# Altium footprint library Seeed-OPL-Connector.PCBLIB: 183 footprints (part 1 of 12)
Each footprint in its own frame and in the unit in brackets; x right, y up, seen from the top. Pads: shape width x height; smd on the part's side, far side on the other; paste and mask are expansions set on the pad; w line width, h text height; cw(c..) or ccw(c..) is an arc to the next point about the centre after c.
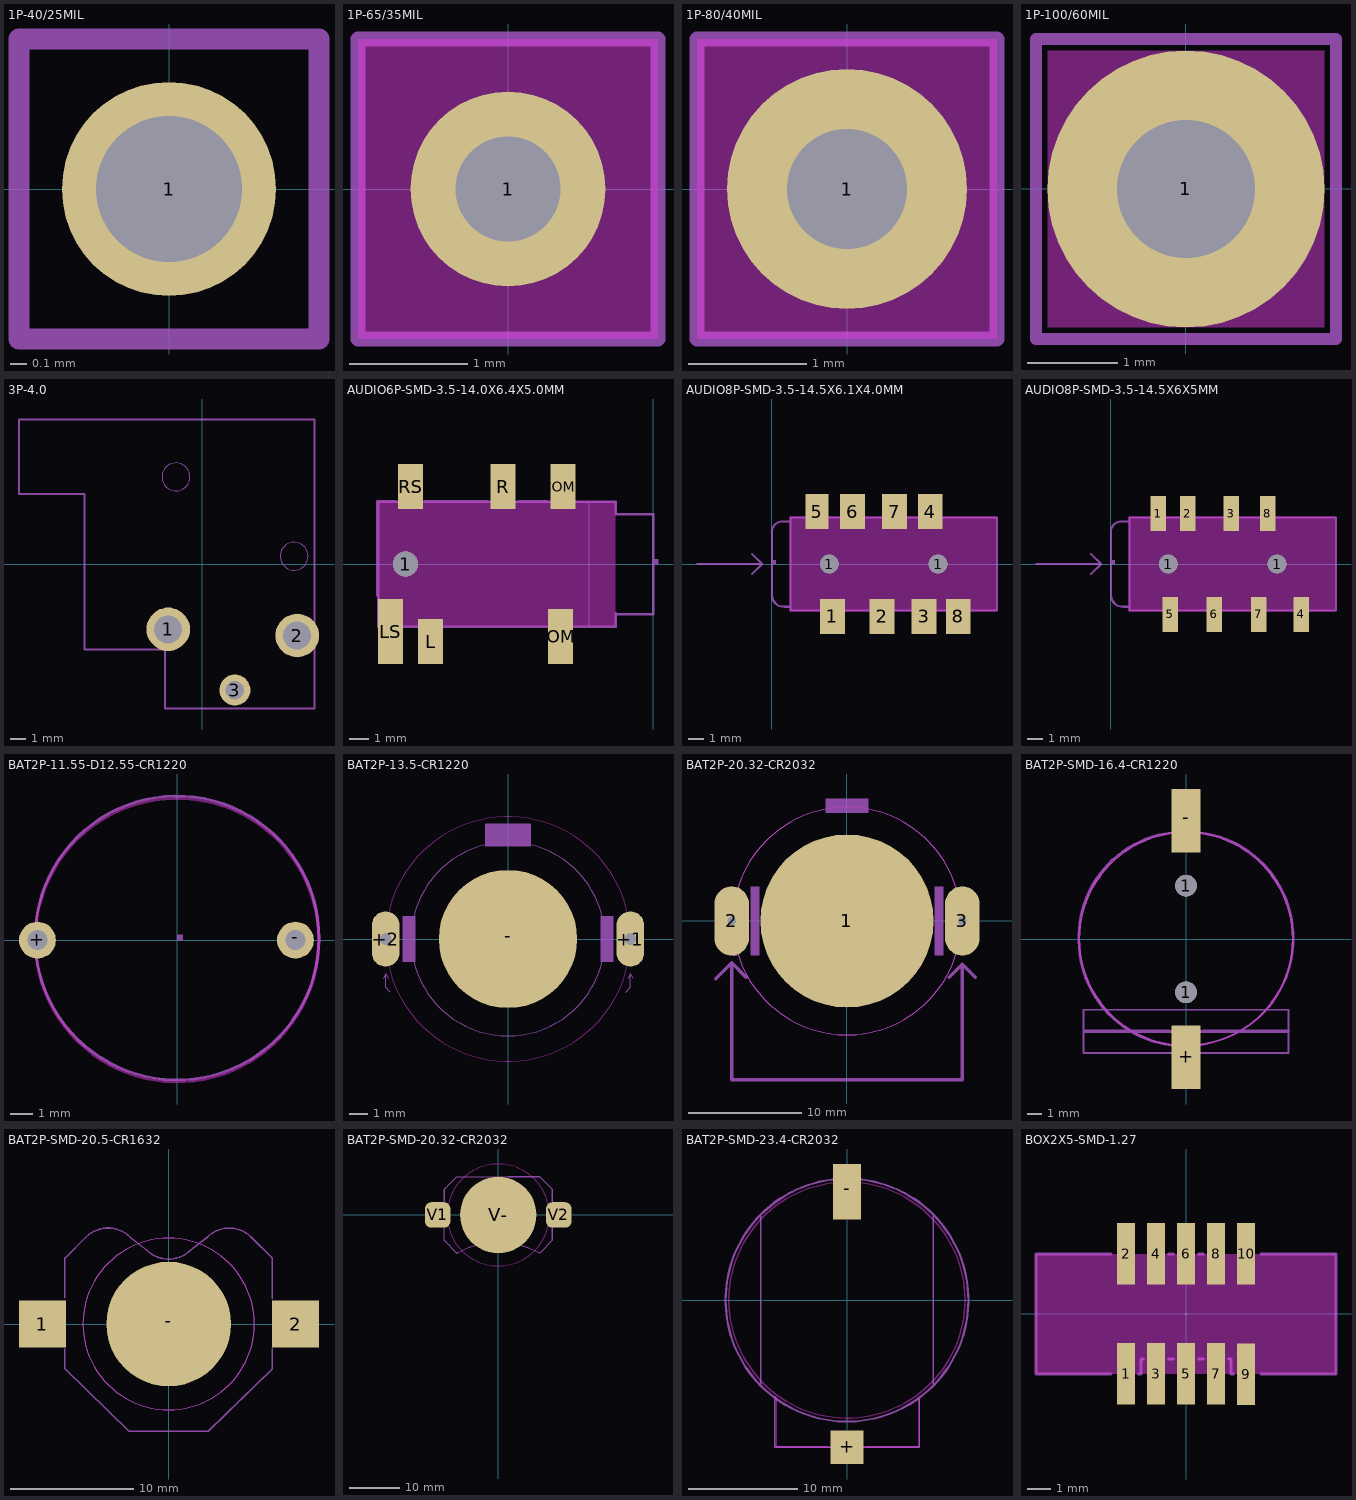
[diagram p0: the footprints below, top view; thin cyan lines are the x and y axes]

## 1P-40/25MIL [mil]
pads (1):
  round 50 hole 34: 1(0,0)
Mechanical 2:
  lines w5: -35,-35 35,-35 35,35 -35,35 -35,-35

## 1P-65/35MIL [mil]
pads (1):
  round 65 hole 35: 1(0,0)
Keep-Out Layer:
  rectangle: -50,-50 50,50
Mechanical 2:
  lines w5: -50,-50 50,-50 50,50 -50,50 -50,-50

## 1P-80/40MIL [mil]
pads (1):
  round 80 hole 40: 1(0,0)
Keep-Out Layer:
  rectangle: -50,-50 50,50
Mechanical 2:
  lines w5: -50,-50 50,-50 50,50 -50,50 -50,-50

## 1P-100/60MIL [mil]
pads (1):
  round 120 hole 60: 1(0,0)
Keep-Out Layer:
  rectangle: -60,-60 60,60
Mechanical 2:
  lines w5: -65,-65 65,-65 65,65 -65,65 -65,-65

## 3P-4.0 [mm]
pads (3):
  round 2.8 hole 1.8: 1(-2.2,-4.2) 2(6.1,-4.6)
  round 2 hole 1.2: 3(2.086,-8.112)
Mechanical 1:
  circle w0.025: c5.9,0.5 r0.9
  circle w0.025: c-1.7,5.6 r0.9
Mechanical 2:
  lines w0.127: -11.8,4.5 -7.6,4.5 -7.6,-5.5 -2.4,-5.5 -2.4,-9.3 7.208,-9.3 7.208,9.3 -11.8,9.3 -11.8,4.5

## AUDIO6P-SMD-3.5-14.0X6.4X5.0MM [mil]
pads (7):
  round 50 hole 50: 1(-495,0)
  rect 50x90 smd: COM1(-180,155) L(-445,-155) R(-300,155) RS(-485,155)
  rect 50x110 smd: COM2(-185,-145)
  rect 50x130 smd: LS(-525,-135)
Keep-Out Layer:
  rectangle: -550,-125 -75,125
Mechanical 1:
  lines w1: -127.56,-125 -127.56,125
Mechanical 2:
  lines w5: -551.18,-62.99 -551.18,125.98 -515.75,125.98 ; -496.06,-125.98 -476.38,-125.98 ; -456.69,125.98 -330.71,125.98 ; -413.39,-125.98 -216.54,-125.98 ; -267.72,125.98 -212.6,125.98 ; -153.54,-125.98 -74.8,-125.98 -74.8,-98.43 ; -149.61,125 -74.8,125 -74.8,102.36 ; -75,-100 0,-100 0,100 -75,100
Mechanical 13:
  region: 0,0 10,0 10,10 0,10
Mechanical 18:
  lines w5: -75,-100 -75,-125 -550,-125 -550,125 -75,125 -75,100

## AUDIO8P-SMD-3.5-14.5X6.1X4.0MM [mm]
pads (10):
  round 1.2 hole 1.2: 1(3.7,0) 1(10.7,0)
  rect 1.6x2.25 smd: 1(3.9,-3.375) 2(7.1,-3.375) 3(9.8,-3.375) 4(10.2,3.375) 6(5.2,3.375) 7(7.9,3.375) 8(12,-3.375)
  rect 1.5x2.25 smd: 5(2.9,3.375)
Keep-Out Layer:
  rectangle: 1.143,-3.048 14.478,3.048
Mechanical 2:
  lines w0.127: 1.2,-2.75 0.719,-2.75 cw(c0.719,-2.031) 0,-2.031 0,2.062 cw(c0.688,2.062) 0.688,2.75 1.2,2.75 ; 1.2,-2.75 1.2,-3 14.5,-3 14.5,3 1.2,3 1.2,2.75 ; 1.2,-2.75 1.2,2.75
Mechanical 13:
  region: 0,0 0.254,0 0.254,0.254 0,0.254
  lines w0.025: 0,-1.869 0,2.021 cw(c0.71,2.021) 0.71,2.73 1.206,2.73 1.206,-2.794 0.925,-2.794 cw(c0.925,-1.869) 0,-1.869
  lines w0.127: -4.826,0 -0.635,0 ; -1.27,-0.635 -0.635,0 ; -1.27,0.635 -0.635,0

## AUDIO8P-SMD-3.5-14.5X6X5MM [mm]
pads (10):
  rect 1x2.25 smd: 1(3.05,3.24) 2(4.95,3.24) 3(7.75,3.24) 4(12.26,-3.24) 5(3.81,-3.24) 6(6.66,-3.24) 7(9.51,-3.24) 8(10.1,3.24)
  round 1.2 hole 1.2: 1(3.7,0) 1(10.7,0)
Keep-Out Layer:
  rectangle: 1.143,-3.048 14.478,3.048
Mechanical 2:
  lines w0.127: 2.4,3 1.2,3 1.2,2.75 ; 3.2,-3 1.2,-3 1.2,-2.75 ; 3.7,3 4.3,3 ; 4.5,-3 6,-3 ; 5.6,3 7.1,3 ; 7.4,-3 8.8,-3 ; 8.4,3 9.5,3 ; 10.2,-3 11.6,-3 ; 10.8,3 14.5,3 14.5,-3 13,-3 ; 1.2,-2.75 0.719,-2.75 cw(c0.719,-2.031) 0,-2.031 0,2.062 cw(c0.688,2.062) 0.688,2.75 1.2,2.75 ; 1.2,-2.75 1.2,2.75
Mechanical 13:
  region: 0,0 0.254,0 0.254,0.254 0,0.254
  lines w0.025: 0,-1.869 0,2.021 cw(c0.71,2.021) 0.71,2.73 1.206,2.73 1.206,-2.794 0.925,-2.794 cw(c0.925,-1.869) 0,-1.869
  lines w0.127: -4.826,0 -0.635,0 ; -1.27,-0.635 -0.635,0 ; -1.27,0.635 -0.635,0
Mechanical 18:
  lines w0.127: 1.2,-3 14.5,-3 ; 1.2,3 14.5,3

## BAT2P-11.55-D12.55-CR1220 [mil]
pads (2):
  round 65 hole 35: +(-246.06,0) -(208.66,0)
Keep-Out Layer:
  circle w5: c0,0 r250
Mechanical 2:
  region: 0,0 10,0 10,10 0,10
  region: 0,0 10,0 10,10 0,10
  region: 0,0 10,0 10,10 0,10
  region: 0,0 10,0 10,10 0,10
Mechanical 18:
  circle w5: c0,3.94 r250.2

## BAT2P-13.5-CR1220 [mil]
pads (3):
  oval 60x120 hole 25: +1(265,0) +2(-265,0)
  rrect100% 300x300 smd: -(0,0)
Keep-Out Layer:
  circle w0: c0,0 r265
Mechanical 2:
  rectangle: -50,200 50,250
  rectangle: -228.35,-50 -200,50
  rectangle: 200,-50 228.35,50
Mechanical 13:
  region: 0,0 10,0 10,10 0,10
  region: 0,0 10,0 10,10 0,10
  lines w1: -270,-85 -265,-75 ; -260,-85 -265,-75 ; -255,-115 -265,-105 -265,-75 ; 255,-115 265,-105 265,-75 ; 260,-85 265,-75 ; 270,-85 265,-75
Mechanical 18:
  circle w0: c0,0 r210

## BAT2P-20.32-CR2032 [mil]
pads (3):
  rrect100% 600x600 smd: 1(0,0)
  oval 120x240 hole 30: 2(-400,0) 3(400,0)
Keep-Out Layer:
  circle w0: c0,0 r395
Mechanical 2:
  rectangle: -334.65,-120 -303.15,120
  rectangle: 303.15,-120 334.65,120
  rectangle: -75,375 75,425
  lines w5: -393.7,-118.11 -381.89,-118.11
Mechanical 13:
  lines w12: -455,-200 -400,-145 ; -350,-195 -400,-145 ; 355,-195 400,-150 ; 445,-195 400,-150 ; -400,-145 -400,-550 400,-550 400,-150
  lines w30: -400,-75 -400,75 ; 400,-75 400,75
Mechanical 18:
  circle w0: c0,0 r395

## BAT2P-SMD-16.4-CR1220 [mm]
pads (4):
  round 1.5 hole 1.5: 1(0,-3.7) 1(0,3.7)
  rect 2x4.4 smd: +(0,-8.2) -(0,8.2)
Keep-Out Layer:
  circle w0.127: c0,0 r7.4
Mechanical 2:
  lines w0.127: -7.4,-0.7 cw(c-0.15,0.15) -1,7.4 ; -7.4,0.8 ccw(c-0.1,-0.1) -1,-7.4 ; -1.2,-7.9 -7.1,-7.9 -7.1,-4.9 7.1,-4.9 7.1,-6.4 7.1,-7.9 1.2,-7.9 ; 1,-7.3 ccw(c0.1,0) 7.4,0.9 ; 1,7.4 cw(c0.1,0.1) 7.4,-0.8
  lines w0.254: -7,-6.4 -1.2,-6.4 ; 1.2,-6.4 7.1,-6.4
Mechanical 18:
  circle w0.127: c0,0 r7.4
  rectangle: -7.1,-6.5 7.1,-6.3
  lines w0.127: -7.1,-7.9 7.1,-7.9

## BAT2P-SMD-20.5-CR1632 [mil]
pads (3):
  rect 150x150 smd: 1(-405,0) 2(407,0)
  rrect100% 400x400 smd: -(0,0)
Mechanical 2:
  lines w5: -332.68,-143.7 -332.68,-78.74 ; -332.68,84.65 -332.68,212.6 ; -332,-144 -127,-344 127,-344 332,-144 ; -332,211.83 -265.13,278.71 cw(c-194.42,208) -123.71,278.71 -70.71,237.52 ccw(c0,308.23) 70.71,237.52 123.55,278.55 cw(c194.26,207.84) 264.97,278.55 332,211.52 ; 332.68,-143.7 332.68,-78.74 ; 332.68,80.71 332.68,212.6
Mechanical 10 keep-out:
  circle w0: c0,0 r275

## BAT2P-SMD-20.32-CR2032 [mil]
pads (3):
  rrect50% 200x200 smd: V1(-475,0) V2(475,0)
  rrect100% 600x600 smd: V-(0,0)
Keep-Out Layer:
  circle w0.09: c0,0 r400
Mechanical 2:
  lines w5: -425.2,-200.79 -425.2,-106.3 ; -425.2,106.3 -425.2,200.79 ; -425,-200 -325,-300 ; -425,200 -325,300 ; -326.77,-299.21 -314.96,-295.28 ; -326.77,299.21 -66.93,299.21 ; -322.83,-299.21 -314.96,-295.28 ; -188.98,-244.09 ccw(c76.5,-1078.06) -314.96,-295.28 ; 74.8,299.21 326.77,299.21 ; 185.04,-244.09 212.6,-251.97 236.22,-259.84 255.91,-267.72 283.46,-279.53 322.83,-299.21 326.77,-299.21 ; 325,-300 425,-200 ; 325,300 425,200 ; 425.2,-200.79 425.2,-106.3 ; 425.2,106.3 425.2,200.79
Mechanical 18:
  lines w5: -425,-200 -425,200 ; -325,-300 cw(c0,-900) 325,-300 ; -325,300 325,300 ; 425,-200 425,200

## BAT2P-SMD-23.4-CR2032 [mil]
pads (2):
  rect 120x120 smd: +(0,-530)
  rect 100x200 smd: -(0,390)
Keep-Out Layer:
  circle w5: c0,0 r425
  lines w5: -260,-350 -255,-350 -255,-530 260,-530 260,-355
Mechanical 2:
  lines w5: -311.02,307.09 -251.97,358.27 -208.66,385.83 -165.35,405.51 -129.92,417.32 -78.74,429.13 -55.12,433.07 ; -260,-530 -260,-350 cw(c-21,0) -310,-310 ; -259.84,-527.56 -66.93,-527.56 ; 55.12,433.07 86.61,429.13 122.05,421.26 165.35,405.51 208.66,385.83 251.97,358.27 311.02,311.02 ; 66.93,-527.56 259.84,-527.56 ; 260,-530 260,-350 ccw(c21,0) 310,-310 ; -310,-310 -310,310 ccw(c0,0) -310,-310 ; -310,-310 ccw(c0,0) 310,-310 ; 310,-310 310,310 cw(c0,0) 310,-310
Mechanical 18:
  circle w5: c0,0 r436
  lines w5: -310,310 cw(c0,0) 310,310 ; -260,-530 260,-530

## BOX2X5-SMD-1.27 [mil]
pads (10):
  rect 30x102.36 smd: 1(-100,-100) 2(-100,100) 3(-50,-100) 4(-50,100) 5(0,-100) 6(0,100) 7(50,-100) 8(50,100) 9(100,-100.24) 10(100,100)
Keep-Out Layer:
  rectangle: -250,-100 250,100
Mechanical 2:
  lines w5: -125,-100 -250,-100 -250,100 -125,100 ; -78.94,-100 -75,-100 -75,-75 -71.06,-75 ; -28.94,-75 -21.06,-75 ; -28.94,100 -21.06,100 ; 21.06,-75 28.94,-75 ; 21.06,100 28.94,100 ; 71.06,-75 75,-75 75,-100 78.94,-100 ; 125,-100.12 250,-100 250,100 125,100